# EAGLE library part 76SB04T (library switches)
Dip Switch Source: Datasheet <https://componentsearchengine.com/Datasheets/1/76SB04T.pdf>
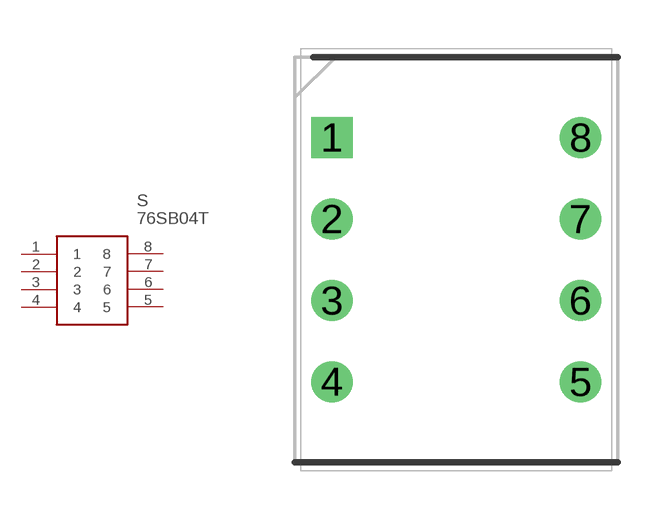
[diagram p1: symbol with the pads of DIP762W56P250L1220H739Q8N; footprint DIP762W56P250L1220H739Q8N]

Designator prefix S

## 76SB04T (DESCRIPTION: Dip Switch; HEIGHT: 7.39mm; MANUFACTURER_NAME: Grayhill; MANUFACTURER_PART_NUMBER: 76SB04T; MOUSER_PART_NUMBER: 706-76SB04T; MOUSER_PRICE-STOCK: https://www.mouser.com/Search/Refine.aspx?Keyword=706-76SB04T)  [DIP762W56P250L1220H739Q8N]
1  1
2  2
3  3
4  4
5  5
6  6
7  7
8  8

## Footprint DIP762W56P250L1220H739Q8N (pad centres in mm)
SERIES 76 PIANO-DIP
drill 0.76 pad 1.16 square: 1 -3.81,3.75
drill 0.76 pad 1.16: 2 -3.81,1.25; 3 -3.81,-1.25; 4 -3.81,-3.75; 5 3.81,-3.75; 6 3.81,-1.25; 7 3.81,1.25; 8 3.81,3.75